# Altium schematic symbol library SCH - PASSIVES - INDUCTOR DLP31DN201ML4L.SCHLIB: 1 symbol
Pins are listed as number, name and electrical type; pins without a type are passive.

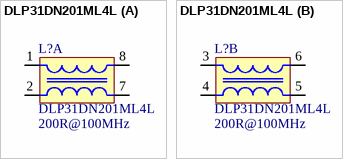
[diagram p0: symbol DLP31DN201ML4L]

## DLP31DN201ML4L
designator L?  value 200R@100MHz
Inductor, CMC, 200Ohm@100MHz; Manufacturer: Murata Electronics; Category: inductors; Manufacturer Part Number: DLP31DN201ML4L; Package/Case: 1206; Pins: 8; Supplier 1: Mouser; Supplier Part Number 1: 81-DLP31DN201ML4L
footprint IND_DLP31D (SMD Common Mode Choke 1206)
part A pins: 1 IN B, 2 IN A, 7 OUT "Output", 8 OUT "Output"
part B pins: 3 IN B, 4 IN A, 5 OUT "Output", 6 OUT "Output"